# EAGLE library part MIC39102 (library Digilent)
Micrel 39102 LDO Linear Voltage Regulator
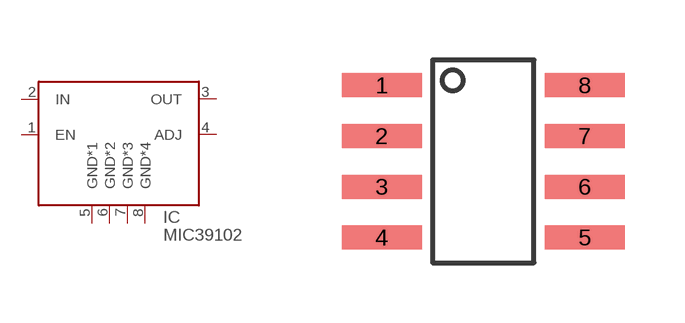
[diagram p62: symbol with the pads of SO8; footprint SO8]

Designator prefix IC

## MIC39102M  [SO8]
1  EN  pwr
2  IN  pwr
3  OUT  pwr
4  ADJ
5  GND*1  pwr
6  GND*2  pwr
7  GND*3  pwr
8  GND*4  pwr

## Footprint SO8 (pad centres in mm)
smd 2 x 0.6: 1 -2.54,1.905; 2 -2.54,0.635; 3 -2.54,-0.635; 4 -2.54,-1.905; 5 2.54,-1.905; 6 2.54,-0.635; 7 2.54,0.635; 8 2.54,1.905